# Altium schematic symbol library Schlib1.SchLib: 37 symbols (part 2 of 2)
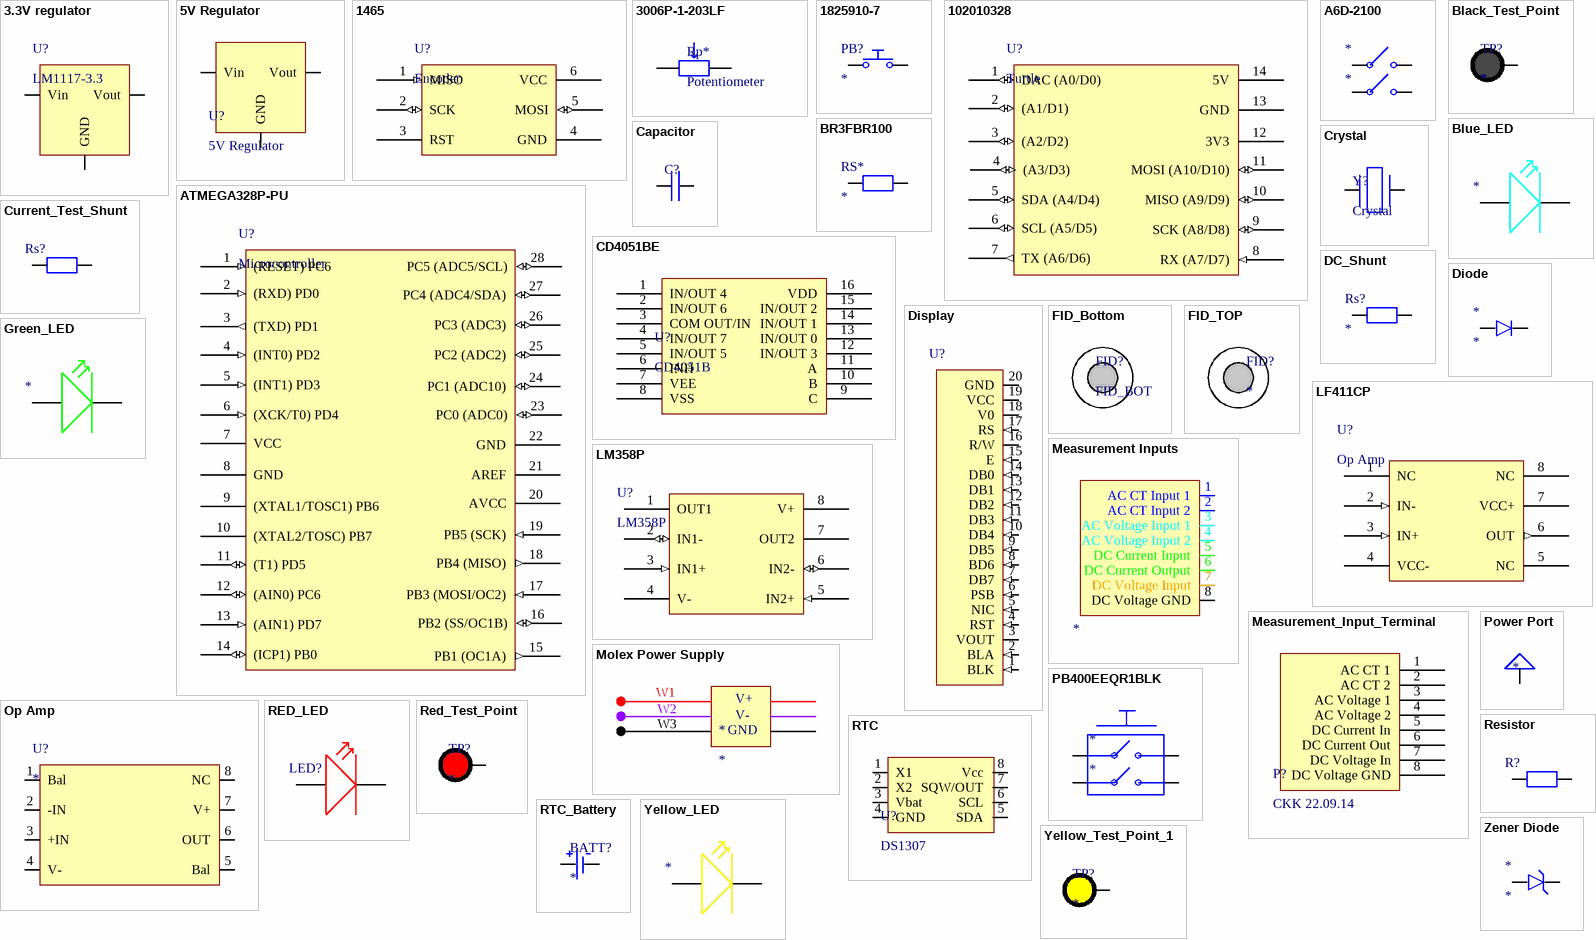
[diagram p1: symbols 3.3V regulator to Zener Diode]

## LM358P
designator U?
Operational Amplifier, Dual, 700 Khz, 2, 0.4 V/ S, 1.5V To 16V, Dip, 8 Rohs Compliant: Yes; Manufacturer: Texas Instruments; Manufacturer Lifecycle Status: ACTIVE; Bandwidth: 1MHz; Common Mode Rejection Ratio: 65dB; Dual Supply Voltage: 9V; Gain Bandwidth Product: 700kHz; Input Bias Current: 250nA; Input Offset Voltage (Vos): 7mV; Max Supply Current: 700µA; Max Supply Voltage: 32V; Min Supply Voltage: 3V; Nominal Supply Current: 1.2mA; Number of Amplifiers: 2; Operating Supply Current: 1mA; Output Current: 30mA; Slew Rate: 0.3V/µs; Voltage Gain: 100dB; Supplier 1: DigiKey; Manufacturer Part Number: LM358P; RoHS: Compliant; Category: Amplifiers - Op Amps, Buffer, Instrumentation; Stock 1: 72654; Pricing 1: 1=0.27, 10=0.187, 50=0.153, 100=0.1423, 250=0.13104, 500=0.12426, 1000=0.11868, 2500=0.11278, 5000=0.1102 (USD); Case/Package: PDIP; Contact Plating: Gold; Height: 5.08mm; Lead Free: Lead Free; Length: 9.81mm; Lifecycle Status: Production; Max Dual Supply Voltage: 16V; Max Operating Temperature: 70°C; Min Dual Supply Voltage: 1.5V; Min Operating Temperature: 0°C; Mount: Through Hole; Number of Channels: 2; Number of Circuits: 2; Number of Elements: 2; Number of Pins: 8; Operating Supply Voltage: 16V; Output Current per Channel: 30mA; Power Supply Rejection Ratio (PSRR): 65dB; Radiation Hardening: No; REACH SVHC: No; Schedule B: 8542330000, 8542330000|8542330000|8542330000|8542330000|8542330000|8542330000|8542330000|8542330000|8542330000|8542330000|8542330000|8542330000|8542330000|8542330000|8542330000|8542330000|8542330000|8542330000|8542330000|8542330000|8542330000|8542330000|8542330000|85; Thickness: 3.9mm; Width: 6.35mm; ComponentLink1URL: https://datasheet.octopart.com:443/LM358P-Texas-Instruments-datasheet-22122189.pdf?src-supplier=Texas+Instruments; ComponentLink1Description: https://datasheet.octopart.com:443/LM358P-Texas-Instruments-datasheet-22122189.pdf?src-supplier=Texas+Instruments; ComponentLink2URL: https://octopart.com:443/opatz8j6/c1?t=oqAI8rLcFpUCwQz3XpiQyJu6cvQHEZqsQz-ajVCN9ANwwKTOsKfzA42PIMJelGWuzT3h6SD-c6fpyT0gSSX2jEno0skou8v9j3Jn_12a0HifiHKIe5xyb9D0ZmJu35xXUPkKHYTg9gNLLOZNL_ZRlu9lopCJkqKAh8-EcsD-mij-HCuIcf6e5wcGllE6vrwhH9FYTnOeC7BJcBEDEy-SR6Gf13-dAeqi_gwlv4VpfKxqzu3VdIKpO-63Eg9hZr4wxMFv42TwUYIo25Tt9ZzY3CMy4ptzf0nP6hbmpRkagDXPpxp0_YPC_pQDbKIScxns-zstyRPAOYYCKtuU7TPlFeKjWR049V7cUehsluTRxHTQ5ZZ8Ynx5nPbUd9yzTscO&src-supplier=Texas+Instruments; ComponentLink2Description: https://octopart.com:443/opatz8j6/c1?t=oqAI8rLcFpUCwQz3XpiQyJu6cvQHEZqsQz-ajVCN9ANwwKTOsKfzA42PIMJelGWuzT3h6SD-c6fpyT0gSSX2jEno0skou8v9j3Jn_12a0HifiHKIe5xyb9D0ZmJu35xXUPkKHYTg9gNLLOZNL_ZRlu9lopCJkqKAh8-EcsD-mij-HCuIcf6e5wcGllE6vrwhH9FYTnOeC7BJcBEDEy-SR6Gf13-dAeqi_gwlv4VpfKxqzu3VdIKpO-63Eg9hZr4wxMFv42TwUYIo25Tt9ZzY3CMy4ptzf0nP6hbmpRkagDXPpxp0_YPC_pQDbKIScxns-zstyRPAOYYCKtuU7TPlFeKjWR049V7cUehsluTRxHTQ5ZZ8Ynx5nPbUd9yzTscO&src-supplier=Texas+Instruments; ComponentLink3URL: https://sigma.octopart.com:443/49250158/technical_drawing/Texas-Instruments-LM358P.pdf?src-supplier=Texas+Instruments; ComponentLink3Description: https://sigma.octopart.com:443/49250158/technical_drawing/Texas-Instruments-LM358P.pdf?src-supplier=Texas+Instruments; ComponentLink4URL: https://datasheet.octopart.com:443/LM358P-Texas-Instruments-datasheet-149604.pdf?src-supplier=Upverter; ComponentLink4Description: https://datasheet.octopart.com:443/LM358P-Texas-Instruments-datasheet-149604.pdf?src-supplier=Upverter; ComponentLink5URL: https://datasheet.octopart.com:443/LM358P-Texas-Instruments-datasheet-16079558.pdf?src-supplier=Upverter; ComponentLink5Description: https://datasheet.octopart.com:443/LM358P-Texas-Instruments-datasheet-16079558.pdf?src-supplier=Upverter; ComponentLink6URL: https://datasheet.octopart.com:443/LM358P-Texas-Instruments-datasheet-81454335.pdf?src-supplier=Farnell; ComponentLink6Description: https://datasheet.octopart.com:443/LM358P-Texas-Instruments-datasheet-81454335.pdf?src-supplier=Farnell; ComponentLink7URL: https://datasheet.octopart.com:443/LM358P.-Texas-Instruments-datasheet-65712975.pdf?src-supplier=Farnell; ComponentLink7Description: https://datasheet.octopart.com:443/LM358P.-Texas-Instruments-datasheet-65712975.pdf?src-supplier=Farnell; ComponentLink8URL: https://datasheet.octopart.com:443/LM358P.-Texas-Instruments-datasheet-32750560.pdf?src-supplier=Farnell; ComponentLink8Description: https://datasheet.octopart.com:443/LM358P.-Texas-Instruments-datasheet-32750560.pdf?src-supplier=Farnell; ComponentLink9URL: https://datasheet.octopart.com:443/LM358P-Texas-Instruments-datasheet-10672735.pdf?src-supplier=Farnell; ComponentLink9Description: https://datasheet.octopart.com:443/LM358P-Texas-Instruments-datasheet-10672735.pdf?src-supplier=Farnell; ComponentLink10URL: https://datasheet.octopart.com:443/LM358P..-Texas-Instruments-datasheet-36780029.pdf?src-supplier=element14+APAC; ComponentLink10Description: https://datasheet.octopart.com:443/LM358P..-Texas-Instruments-datasheet-36780029.pdf?src-supplier=element14+APAC; ComponentLink11URL: https://datasheet.octopart.com:443/LM358P-Texas-Instruments-datasheet-2970.pdf?src-supplier=DigiKey; ComponentLink11Description: https://datasheet.octopart.com:443/LM358P-Texas-Instruments-datasheet-2970.pdf?src-supplier=DigiKey; ComponentLink12URL: https://datasheet.octopart.com:443/LM358P-Texas-Instruments-datasheet-159115118.pdf?src-supplier=LCSC; ComponentLink12Description: https://datasheet.octopart.com:443/LM358P-Texas-Instruments-datasheet-159115118.pdf?src-supplier=LCSC; ComponentLink13URL: https://datasheet.octopart.com:443/LM358P-Texas-Instruments-datasheet-147835639.pdf?src-supplier=SHENGYU+ELECTRONICS; ComponentLink13Description: https://datasheet.octopart.com:443/LM358P-Texas-Instruments-datasheet-147835639.pdf?src-supplier=SHENGYU+ELECTRONICS; ComponentLink14URL: https://datasheet.octopart.com:443/LM358P-Texas-Instruments-datasheet-101363746.pdf?src-supplier=Megastar; ComponentLink14Description: https://datasheet.octopart.com:443/LM358P-Texas-Instruments-datasheet-101363746.pdf?src-supplier=Megastar; ComponentLink15URL: https://datasheet.octopart.com:443/LM358P-Texas-Instruments-datasheet-137316104.pdf?src-supplier=Future+Electronics; ComponentLink15Description: https://datasheet.octopart.com:443/LM358P-Texas-Instruments-datasheet-137316104.pdf?src-supplier=Future+Electronics; ComponentLink16URL: https://datasheet.octopart.com:443/LM358P-Texas-Instruments-datasheet-21220556.pdf?src-supplier=Newark; ComponentLink16Description: https://datasheet.octopart.com:443/LM358P-Texas-Instruments-datasheet-21220556.pdf?src-supplier=Newark; ComponentLink17URL: https://datasheet.octopart.com:443/LM358P-Texas-Instruments-datasheet-14137277.pdf?src-supplier=iiiC; ComponentLink17Description: https://datasheet.octopart.com:443/LM358P-Texas-Instruments-datasheet-14137277.pdf?src-supplier=iiiC; ComponentLink18URL: https://datasheet.octopart.com:443/LM358P-Texas-Instruments-datasheet-10086281.pdf?src-supplier=element14; ComponentLink18Description: https://datasheet.octopart.com:443/LM358P-Texas-Instruments-datasheet-10086281.pdf?src-supplier=element14; ComponentLink19URL: https://datasheet.octopart.com:443/LM358P-Texas-Instruments-datasheet-8861238.pdf?src-supplier=element14; ComponentLink19Description: https://datasheet.octopart.com:443/LM358P-Texas-Instruments-datasheet-8861238.pdf?src-supplier=element14; ComponentLink20URL: https://datasheet.octopart.com:443/LM358P-Texas-Instruments-datasheet-8728431.pdf?src-supplier=element14; ComponentLink20Description: https://datasheet.octopart.com:443/LM358P-Texas-Instruments-datasheet-8728431.pdf?src-supplier=element14; ComponentLink21URL: https://datasheet.octopart.com:443/LM358P-Texas-Instruments-datasheet-8637033.pdf?src-supplier=element14; ComponentLink21Description: https://datasheet.octopart.com:443/LM358P-Texas-Instruments-datasheet-8637033.pdf?src-supplier=element14; ComponentLink22URL: https://datasheet.octopart.com:443/LM358P-Texas-Instruments-datasheet-17597669.pdf?src-supplier=TME; ComponentLink22Description: https://datasheet.octopart.com:443/LM358P-Texas-Instruments-datasheet-17597669.pdf?src-supplier=TME; ComponentLink23URL: https://datasheet.octopart.com:443/LM358P-Texas-Instruments-datasheet-8220297.pdf?src-supplier=Jameco; ComponentLink23Description: https://datasheet.octopart.com:443/LM358P-Texas-Instruments-datasheet-8220297.pdf?src-supplier=Jameco; ComponentLink24URL: https://datasheet.octopart.com:443/LM358P-Texas-Instruments-datasheet-111658.pdf?src-supplier=Sierra+IC; ComponentLink24Description: https://datasheet.octopart.com:443/LM358P-Texas-Instruments-datasheet-111658.pdf?src-supplier=Sierra+IC; ComponentLink25URL: http://sigma.octopart.com:80/reach_statement/Texas-Instruments-company-64.pdf?src-supplier=Compliance+Statements; ComponentLink25Description: http://sigma.octopart.com:80/reach_statement/Texas-Instruments-company-64.pdf?src-supplier=Compliance+Statements; ComponentLink26URL: http://sigma.octopart.com:80/conflict_mineral_statement/Texas-Instruments-company-63.pdf?src-supplier=Compliance+Statements; ComponentLink26Description: http://sigma.octopart.com:80/conflict_mineral_statement/Texas-Instruments-company-63.pdf?src-supplier=Compliance+Statements; Supplier Part Number 1: 296-1395-5-ND
footprint Op Amp
pins: 1 OUT1, 2 IN1- (io), 3 IN1+ (in), 4 V- (power), 5 IN2+ (in), 6 IN2- (io), 7 OUT2, 8 V+

## Measurement Inputs
designator ?
pins: 1 AC CT Input 1, 2 AC CT Input 2, 3 AC Voltage Input 1, 4 AC Voltage Input 2, 5 DC Current Input, 6 DC Current Output, 7 DC Voltage Input, 8 DC Voltage GND

## Measurement_Input_Terminal
designator P?, comment CKK 22.09.14
footprint Measurement_Socket
pins: 1 AC CT 1, 2 AC CT 2, 3 AC Voltage 1, 4 AC Voltage 2, 5 DC Current In, 6 DC Current Out, 7 DC Voltage In, 8 DC Voltage GND

## Molex Power Supply
designator *
footprint Molex_Power_Supply
pins: 1, 2, 3
text: W1; V+; W2; V-; W3; GND

## Op Amp
designator U?
footprint Op Amp
pins: 1 Bal (power), 2 -IN (power), 3 +IN (power), 4 V- (power), 5 Bal (power), 6 OUT (power), 7 V+ (power), 8 NC (power)

## PB400EEQR1BLK
designator *
Pushbutton Switch, DPST, Standard Through Hole, Right Angle, Off-On Function, 30V, Black; Manufacturer: E-Switch; Manufacturer Part Number: PB400EEQR1BLK; Actuator Length: 10.4902mm; Contact Current Rating: 3A; Contact Resistance: 30mΩ; Electrical Life: 6kcycles; Insulation Resistance: 500MΩ; Number of Positions: 2; Operating Force: 7N; Supplier 1: DigiKey; RoHS: Compliant; Category: Pushbutton Switches; Stock 1: 7960; Pricing 1: 1=2.09, 10=1.807, 25=1.7048, 50=1.6308, 100=1.56, 324=1.4466, 648=1.38355, 1296=1.32313 (USD); Contact Material: Silver; Export Control Classification Number (ECCN) Code: EAR99; Height: 10.2mm; Harmonized Tariff Schedule (HTS) Code: 8536.50.90.33; Introduction Date: 2017-12-19; Length: 11mm; Lifecycle Status: Production; Max Current Rating: 3A; Max Operating Temperature: 60°C; Max Voltage Rating (DC): 30V; Min Operating Temperature: -5°C; REACH SVHC: Yes; Throw Configuration: DPST; ComponentLink1URL: https://datasheet.octopart.com:443/PB400EEQR1BLK-E-Switch-datasheet-182202396.pdf?src-supplier=IHS; ComponentLink1Description: https://datasheet.octopart.com:443/PB400EEQR1BLK-E-Switch-datasheet-182202396.pdf?src-supplier=IHS; ComponentLink2URL: https://datasheet.octopart.com:443/PB400EEQR1BLK-E-Switch-datasheet-190233233.pdf?src-supplier=New+Yorker+Electronics; ComponentLink2Description: https://datasheet.octopart.com:443/PB400EEQR1BLK-E-Switch-datasheet-190233233.pdf?src-supplier=New+Yorker+Electronics; ComponentLink3URL: https://datasheet.octopart.com:443/PB400EEQR1BLK-E-Switch-datasheet-103039574.pdf?src-supplier=element14+APAC; ComponentLink3Description: https://datasheet.octopart.com:443/PB400EEQR1BLK-E-Switch-datasheet-103039574.pdf?src-supplier=element14+APAC; ComponentLink4URL: https://datasheet.octopart.com:443/PB400EEQR1BLK-E-Switch-datasheet-156105207.pdf?src-supplier=Future+Electronics; ComponentLink4Description: https://datasheet.octopart.com:443/PB400EEQR1BLK-E-Switch-datasheet-156105207.pdf?src-supplier=Future+Electronics; Supplier Part Number 1: EG5547-ND
footprint PCBComponent_1 - duplicate
pins: 1, 2, 3, 4

## Power Port
designator *  (value not drawn)
pins: 12

## RED_LED
designator LED?
footprint LED
pins: 1, 2

## Red_Test_Point
designator TP?
footprint TP
pins: 1

## Resistor
designator R?  (value not drawn)
footprint Resistor
pins: 1, 2

## RTC
designator U?, comment DS1307
pins: 1 X1, 2 X2, 3 Vbat, 4 GND, 5 SDA, 6 SCL, 7 SQW/OUT, 8 Vcc

## RTC_Battery
designator BATT?
footprint Battery Holder
pins: 1, 2

## Yellow_LED
designator *  (value not drawn)
footprint LED
pins: 1, 2

## Yellow_Test_Point_1
designator TP?
footprint TP
footprint TP
pins: 1

## Zener Diode
designator *
footprint Zener Diode (3V)
pins: 1, 2